# EAGLE library part LED_MULTICOLOR (library robotter_diode)
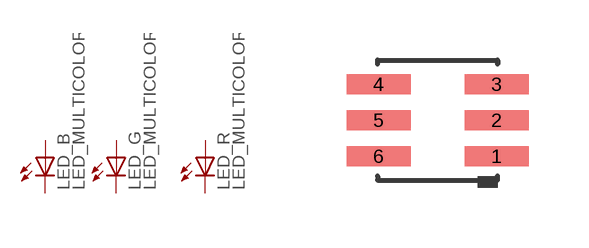
[diagram p0: symbol with the pads of PLCC6; footprint PLCC6]

Designator prefix LED; gates _B=LED _G=LED _R=LED

## LED_MULTICOLOR (FARNELL: 1863245; MANUFACTURER: AVAGO TECHNOLOGIES; MOUSER: 630-ASMT-YTD2-0BB02; RS: 769-3520; VALUE: ASMT-YTD2-0BB02)  [PLCC6]
1  _B:C  pas
2  _G:C  pas
3  _R:C  pas
4  _R:A  pas
5  _G:A  pas
6  _B:A  pas

## Footprint PLCC6 (pad centres in mm)
smd 1.6 x 0.5: 1 1.475,-0.9; 2 1.475,0; 3 1.475,0.9; 4 -1.475,0.9; 5 -1.475,0; 6 -1.475,-0.9